# EAGLE library part STACK_BUS_2X20 (library con-special_purpose)
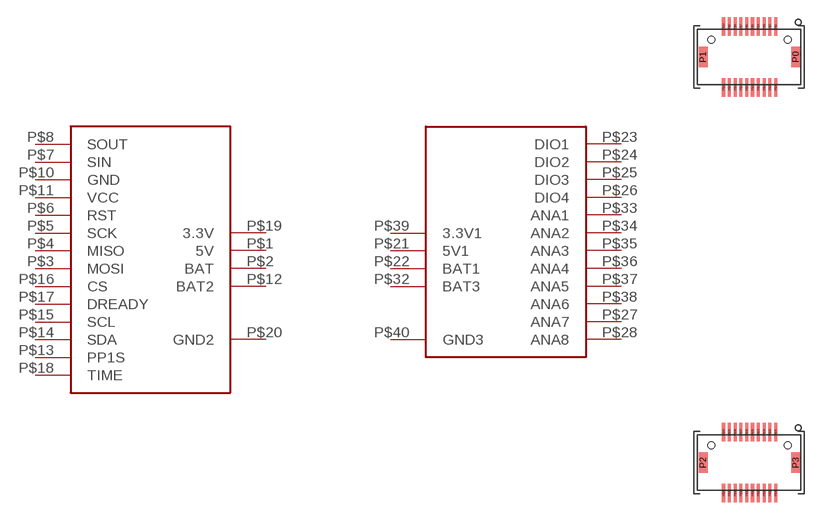
[diagram p11: symbol with the pads of STACK_BUS_2X20PIN; footprint STACK_BUS_2X20PIN]

Designator prefix -

## STACK_BUS_2X20 (PLACE_PART: YES)  [STACK_BUS_2X20PIN]
P$1  5V
P$2  BAT
P$3  MOSI
P$4  MISO
P$5  SCK
P$6  RST
P$7  SIN
P$8  SOUT
P$10  GND
P$11  VCC
P$12  BAT2
P$13  PP1S
P$14  SDA
P$15  SCL
P$16  CS
P$17  DREADY
P$18  TIME
P$19  3.3V
P$20  GND2
P$21  5V1
P$22  BAT1
P$23  DIO1
P$24  DIO2
P$25  DIO3
P$26  DIO4
P$27  ANA7
P$28  ANA8
P$32  BAT3
P$33  ANA1
P$34  ANA2
P$35  ANA3
P$36  ANA4
P$37  ANA5
P$38  ANA6
P$39  3.3V1
P$40  GND3

## Footprint STACK_BUS_2X20PIN (pad centres in mm)
smd 0.8 x 1.8: P0 4,0; P1 -4,0; P2 -4,-35; P3 4,-35
smd 0.27 x 1.6: P$1 2.25,2.612; P$2 1.75,2.612; P$3 1.25,2.612; P$4 0.75,2.612; P$5 0.25,2.612; P$6 -0.25,2.612; P$7 -0.75,2.612; P$8 -1.25,2.612; P$9 -1.75,2.612; P$10 -2.25,2.612; P$11 -2.25,-2.612; P$12 -1.75,-2.612; P$13 -1.25,-2.612; P$14 -0.75,-2.612; P$15 -0.25,-2.612; P$16 0.25,-2.612; P$17 0.75,-2.612; P$18 1.25,-2.612; P$19 1.75,-2.612; P$20 2.25,-2.612; P$21 2.25,-32.388; P$22 1.75,-32.388; P$23 1.25,-32.388; P$24 0.75,-32.388; P$25 0.25,-32.388; P$26 -0.25,-32.388; P$27 -0.75,-32.388; P$28 -1.25,-32.388; P$29 -1.75,-32.388; P$30 -2.25,-32.388; P$31 -2.25,-37.612; P$32 -1.75,-37.612; P$33 -1.25,-37.612; P$34 -0.75,-37.612; P$35 -0.25,-37.612; P$36 0.25,-37.612; P$37 0.75,-37.612; P$38 1.25,-37.612; P$39 1.75,-37.612; P$40 2.25,-37.612
hole 0.6 at -3.3,1.5
hole 0.6 at 3.3,1.5
hole 0.6 at -3.3,-33.5
hole 0.6 at 3.3,-33.5